# Altium integrated library AO3401.IntLib: 1 symbol
Pins are listed as number, name and electrical type; pins without a type are passive.

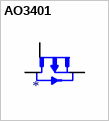
[diagram p0: symbol AO3401]

## AO3401
designator ?
P-Channel 30V 4A _Ta_ 1.4W _Ta_ Surface Mount SOT-23-3; MP: AO3401; MF: Alpha & Omega Semiconductor; Value: *; SnapEDA_Link: https://www.snapeda.com/parts/AO3401/Alpha%20%26%20Omega%20Semiconductor/view-part/4592622/?ref=snap; Availability: Unavailable; Package: SOT-23-3 Alpha &amp; Omega Semiconductor; Price: None
footprint SOT23
pins: 1 G, 2 S, 3 D